# Altium footprint library YaoPCB.PCBLIB: 415 footprints (part 9 of 26)
Each footprint in its own frame and in the unit in brackets; x right, y up, seen from the top. Pads: shape width x height; smd on the part's side, far side on the other; paste and mask are expansions set on the pad; w line width, h text height; cw(c..) or ccw(c..) is an arc to the next point about the centre after c.
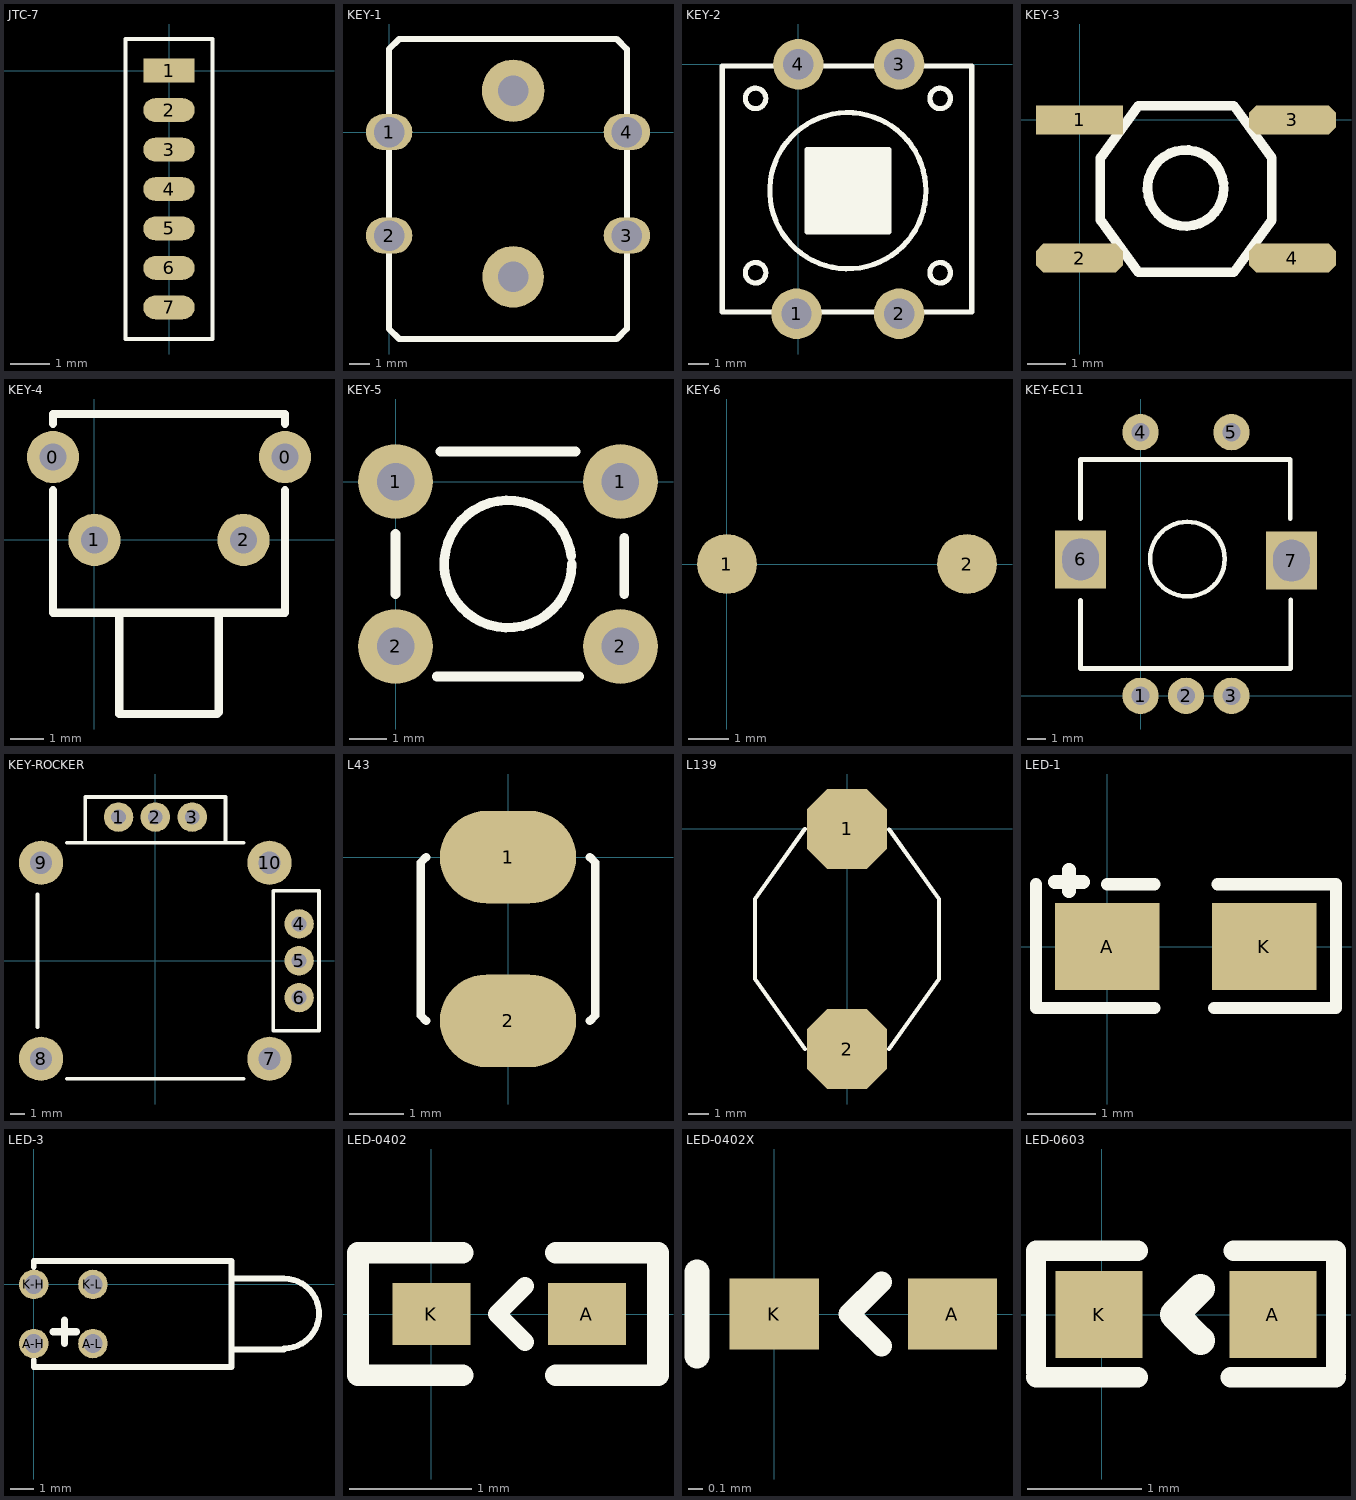
[diagram p8: the footprints below, top view; thin cyan lines are the x and y axes]

## JTC-7 [mm]
pads (7):
  rect 1.3x0.6 smd: 1(0,0)
  oval 1.3x0.6 smd: 2(0,-1) 3(0,-2) 4(0,-3) 5(0,-4) 6(0,-5) 7(0,-6)
TopOverlay:
  lines w0.1: -1.1,-6.8 -1.1,0.8 1.1,0.8 1.1,-6.8 -1.1,-6.8

## KEY-1 [mil]
pads (6):
  oval 90x70 hole 59.06: 1(0,0) 2(0,-200) 3(459.79,-200) 4(459.79,0)
  round 119.06 hole 59.06: ""(239.79,-280)
  round 120.63 hole 59.06: ""(239.79,80)
TopOverlay:
  lines w12: -0.21,-380 0,-379.79 0,0 -0.21,0.21 -0.21,160 19.79,180 419.79,180 439.79,180 459.79,160 459.79,-380 439.79,-400 19.79,-400 -0.21,-380

## KEY-2 [mm]
pads (4):
  round 2.5 hole 1.5: 1(-0.085,-12.361) 2(4.995,-12.361) 3(4.995,0) 4(0,0)
TopOverlay:
  circle w0.254: c2.455,-6.265 r3.869
  circle w0.254: c-2.117,-1.693 r0.508
  circle w0.254: c7.027,-1.693 r0.508
  circle w0.254: c7.027,-10.329 r0.508
  circle w0.254: c-2.117,-10.329 r0.508
  rectangle: 0.422,-8.297 4.486,-4.233
  lines w0.254: -3.768,-12.277 -3.768,-0.085 8.594,-0.085 8.594,-12.277 -3.768,-12.277 ; 0.423,-8.297 4.487,-8.297 4.487,-4.233 0.423,-4.233 0.423,-8.297

## KEY-3 [mil]
pads (4):
  rect 90x30 smd: 1(0,0)
  oct 90x30 smd: 2(0,-142.89) 3(220,-0.02) 4(220,-142.89)
TopOverlay:
  lines w10: 148.67,-65.59 ccw(c109.6,-70.47) 148.97,-70.47 ; 21.51,-103.44 21.51,-39.47 60.88,14.66 159.31,14.66 198.68,-39.47 198.68,-103.44 159.31,-157.58 60.88,-157.58 21.51,-103.44

## KEY-4 [mil]
pads (4):
  round 62 hole 32: 0(-49.21,98.43) 0(226.38,98.43) 1(0,0) 2(177.17,0)
TopOverlay:
  lines w10: -49.21,59.06 -49.21,-86.61 226.38,-86.61 226.38,59.06 ; -49.21,137.8 -49.21,149.61 226.38,149.61 226.38,137.8 ; 29.53,-206.69 145.67,-206.69 ; 29.53,-204.72 29.53,-86.61 ; 147.64,-204.72 147.64,-86.61

## KEY-5 [mm]
pads (4):
  round 2 hole 1: 1(0,0) 1(6,0) 2(0,-4.4) 2(6,-4.4)
TopOverlay:
  lines w0.254: 0,-3 0,-1.4 ; 1.1,-5.2 4.9,-5.2 ; 1.2,0.8 4.8,0.8 ; 4.687,-1.989 ccw(c3,-2.2) 4.7,-2.2 ; 6.1,-3 6.1,-1.5

## KEY-6 [mm]
pads (2):
  round 1.5 smd: 1(0,0) 2(6,0)

## KEY-EC11 [mm]
pads (7):
  round 2 hole 1: 1(0,0) 2(2.5,0) 3(5,0) 4(0,14.5) 5(5,14.5)
  rect 2.8x3.2 hole 2 slot 2.3 at 90 deg: 6(-3.3,7.5) 7(8.3,7.44)
TopOverlay:
  circle w0.25: c2.578,7.52 r2.052
  lines w0.254: -3.3,5.26 -3.3,1.5 8.26,1.5 8.26,5.28 ; -3.3,9.74 -3.3,13 8.23,13 8.23,9.74

## KEY-ROCKER [mm]
pads (10):
  round 2 hole 1: 1(-2.5,9.75) 2(0,9.75) 3(2.5,9.75) 4(9.75,2.5) 5(9.75,0) 6(9.75,-2.5)
  round 3 hole 1.5: 7(7.75,-6.65) 8(-7.75,-6.65) 9(-7.75,6.65) 10(7.75,6.65)
TopOverlay:
  lines w0.25: 8,-4.75 11.1,-4.75 ; 8,4.75 11.1,4.75
  lines w0.254: -8,-4.5 -8,4.5 ; -6,-8 6,-8 ; -6,8 6,8 ; -4.75,8 -4.75,11.1 4.75,11.1 4.75,8 ; 8,-4.75 8,4.75 ; 11.1,-4.75 11.1,4.75

## L43 [mm]
pads (2):
  oval 2.5x1.7 smd: 1(0,0) 2(0,-3)
TopOverlay:
  lines w0.15: -1.5,-3 -1.6,-2.9 -1.6,-0.1 -1.5,0 ; 1.5,-3 1.6,-2.9 1.6,-0.1 1.5,0

## L139 [mm]
pads (2):
  oct 4x4 smd: 1(0,0) 2(0,-11)
TopOverlay:
  lines w0.203: -2.108,-10.998 -4.6,-7.5 -4.6,-3.5 -2.108,0 ; 2.108,-10.998 4.6,-7.5 4.6,-3.5 2.108,-0.025

## LED-1 [mil]
pads (2):
  rect 60x50 smd: A(0,0) K(90,0)
TopOverlay:
  lines w7: -40.89,35.72 -40.89,-35.28 27.11,-35.28 ; 0,35.72 27.11,35.72 ; 61.11,-35.28 131.11,-35.28 131.11,35.72 63.11,35.72
  lines w8: -30,37 -14,37 ; -22,32 -22,44

## LED-3 [mil]
pads (4):
  round 50 hole 32: A-H(0,-100) A-L(100,-100) K-H(0,0) K-L(100,0)
TopOverlay:
  lines w10: 0,-139.37 334.65,-139.37 ; 0,-137.8 0,-127.95 ; 0,29.53 0,39.37 334.65,39.37 334.65,-137.8 ; 334.65,-109.84 423.23,-109.84 ; 334.65,9.84 423.23,9.84 cw(c423.23,-49.21) 423.23,-108.27
  lines w12: 32.36,-80 71.73,-80 ; 51.73,-100 51.73,-60.63

## LED-0402 [mil]
pads (2):
  rect 25x20 smd: A(50,0) K(0,0)
TopOverlay:
  lines w5.91: 30.06,-9 21.06,0 30.06,9
  lines w7: 10,-19.68 -23.62,-19.68 -23.62,19.68 10,19.68 ; 40,-19.68 72.83,-19.68 72.83,19.68 40,19.68

## LED-0402X [mil]
pads (2):
  rect 25x20 smd: A(50,0) K(0,0)
TopOverlay:
  lines w5.91: 30.06,-9 21.06,0 30.06,9
  lines w7: -21.65,-11.81 -21.65,11.81

## LED-0603 [mil]
pads (2):
  rect 30x30 smd: A(59.05,0) K(-0.94,0)
TopOverlay:
  lines w7: -22.72,-21.68 12.44,-21.68 ; -22.72,-19.72 -22.72,21.83 ; -22.72,22.04 12.44,22.04 ; 44.44,-21.69 80.81,-21.69 ; 45.44,22.04 80.81,22.04 80.81,-19.72
  lines w10: 33.99,-9 24.99,0 33.99,9